# Altium integrated library NSC Interface.IntLib: 481 symbols (part 12 of 16)
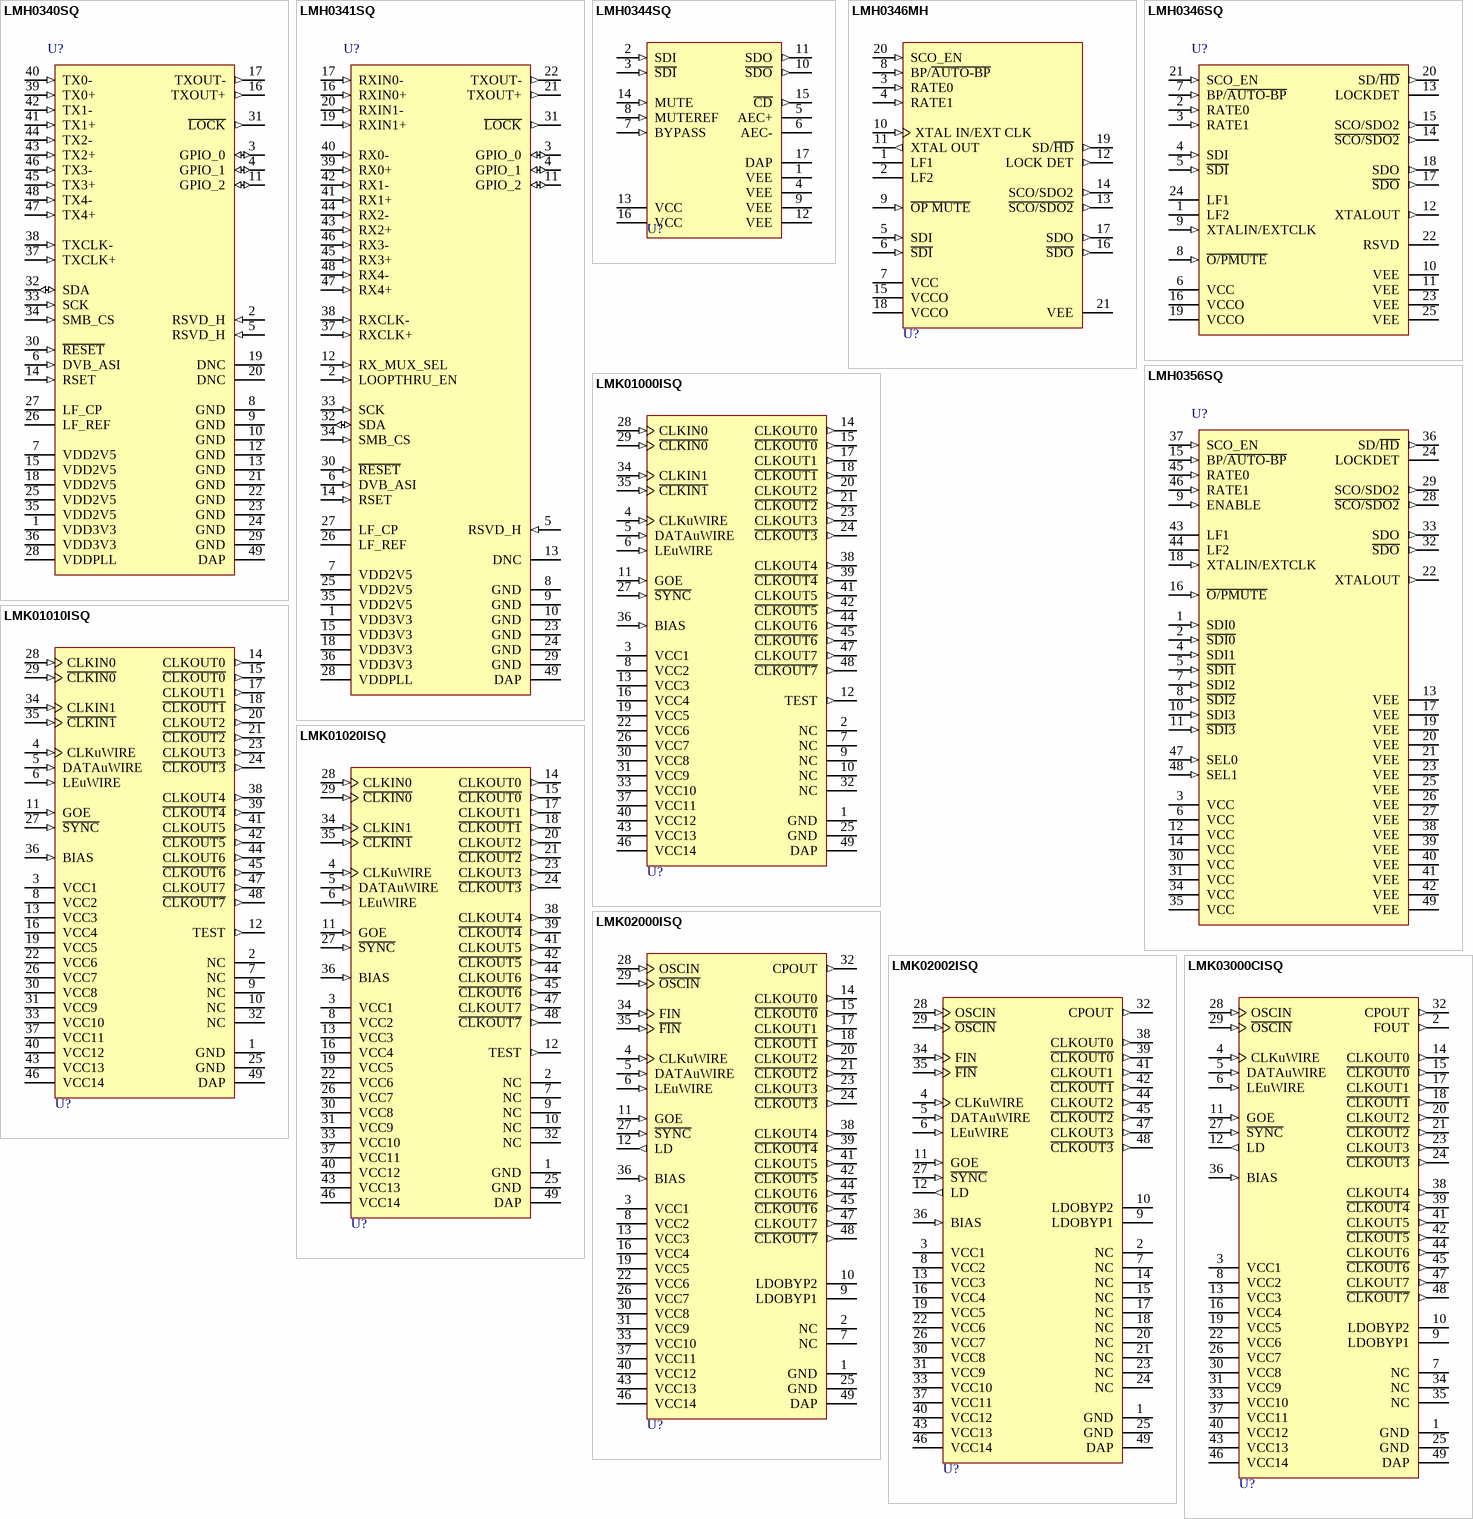
[diagram p51: symbols LMH0340SQ to LMK03000CISQ]

## LMK01000ISQ
designator U?
1.6 GHz High Performance Clock Buffer, Divider, and Distributor; PartNumber: LMK01000ISQ; Manufacturer: National Semiconductor; CompType: Interface IC; PackageTopMarking: NS*UZXYTT*K01000 I; Published: 4-Dec-2008; DatasheetVersion: Mar-2008; PackageVersion: revA, May-2003; PackageReference: SQA48A; Publisher: Altium Limited; PackageDescription: LLP, Plastic, Quad, 7 x 7 x 0.8mm Body, 48 Lead, 0.5mm Pitch, No Pullback; RoHS: Y; PinCount: 48; Code_JEDEC: MO-220-WKKD-2; ComponentLink1Description: LMK01000 Datasheet; ComponentLink1URL: http://www.national.com/ds/LM/LMK01000.pdf; ComponentLink2Description: LMK01000 Web Page; ComponentLink2URL: http://www.national.com/pf/LM/LMK01000.html; ComponentLink3Description: SQA48A Package Page; ComponentLink3URL: http://www.national.com/packaging/folders/sqa48a.html
footprint SQA48A (QFN, 48-Leads, Body 7x7mm, Pitch 0.5mm, NSC Recommended)
pins: 1 GND (power), 2 NC, 3 VCC1 (power), 4 CLKuWIRE (in), 5 DATAuWIRE (in), 6 LEuWIRE (in), 7 NC, 8 VCC2 (power), 9 NC, 10 NC, 11 GOE (in), 12 TEST (out), 13 VCC3 (power), 14 CLKOUT0 (out), 15 ~{CLKOUT0} (out), 16 VCC4 (power), 17 CLKOUT1 (out), 18 ~{CLKOUT1} (out), 19 VCC5 (power), 20 CLKOUT2 (out), 21 ~{CLKOUT2} (out), 22 VCC6 (power), 23 CLKOUT3 (out), 24 ~{CLKOUT3} (out), 25 GND (power), 26 VCC7 (power), 27 ~{SYNC} (in), 28 CLKIN0 (in), 29 ~{CLKIN0} (in), 30 VCC8 (power), 31 VCC9 (power), 32 NC, 33 VCC10 (power), 34 CLKIN1 (in), 35 ~{CLKIN1} (in), 36 BIAS (in), 37 VCC11 (power), 38 CLKOUT4 (out), 39 ~{CLKOUT4} (out), 40 VCC12 (power), 41 CLKOUT5 (out), 42 ~{CLKOUT5} (out), 43 VCC13 (power), 44 CLKOUT6 (out), 45 ~{CLKOUT6} (out), 46 VCC14 (power), 47 CLKOUT7 (out), 48 ~{CLKOUT7} (out), 49 DAP (power)

## LMK01010ISQ
designator U?
1.6 GHz High Performance Clock Buffer, Divider, and Distributor; PartNumber: LMK01010ISQ; Manufacturer: National Semiconductor; CompType: Interface IC; PackageTopMarking: NS*UZXYTT*K01010 I; Published: 4-Dec-2008; DatasheetVersion: Mar-2008; PackageVersion: revA, May-2003; PackageReference: SQA48A; Publisher: Altium Limited; PackageDescription: LLP, Plastic, Quad, 7 x 7 x 0.8mm Body, 48 Lead, 0.5mm Pitch, No Pullback; RoHS: Y; PinCount: 48; Code_JEDEC: MO-220-WKKD-2; ComponentLink1Description: LMK01010 Datasheet; ComponentLink1URL: http://www.national.com/ds/LM/LMK01010.pdf; ComponentLink2Description: LMK01010 Web Page; ComponentLink2URL: http://www.national.com/pf/LM/LMK01010.html; ComponentLink3Description: SQA48A Package Page; ComponentLink3URL: http://www.national.com/packaging/folders/sqa48a.html
footprint SQA48A (QFN, 48-Leads, Body 7x7mm, Pitch 0.5mm, NSC Recommended)
pins: 1 GND (power), 2 NC, 3 VCC1 (power), 4 CLKuWIRE (in), 5 DATAuWIRE (in), 6 LEuWIRE (in), 7 NC, 8 VCC2 (power), 9 NC, 10 NC, 11 GOE (in), 12 TEST (out), 13 VCC3 (power), 14 CLKOUT0 (out), 15 ~{CLKOUT0} (out), 16 VCC4 (power), 17 CLKOUT1 (out), 18 ~{CLKOUT1} (out), 19 VCC5 (power), 20 CLKOUT2 (out), 21 ~{CLKOUT2} (out), 22 VCC6 (power), 23 CLKOUT3 (out), 24 ~{CLKOUT3} (out), 25 GND (power), 26 VCC7 (power), 27 ~{SYNC} (in), 28 CLKIN0 (in), 29 ~{CLKIN0} (in), 30 VCC8 (power), 31 VCC9 (power), 32 NC, 33 VCC10 (power), 34 CLKIN1 (in), 35 ~{CLKIN1} (in), 36 BIAS (in), 37 VCC11 (power), 38 CLKOUT4 (out), 39 ~{CLKOUT4} (out), 40 VCC12 (power), 41 CLKOUT5 (out), 42 ~{CLKOUT5} (out), 43 VCC13 (power), 44 CLKOUT6 (out), 45 ~{CLKOUT6} (out), 46 VCC14 (power), 47 CLKOUT7 (out), 48 ~{CLKOUT7} (out), 49 DAP (power)

## LMK01020ISQ
designator U?
1.6 GHz High Performance Clock Buffer, Divider, and Distributor; PartNumber: LMK01020ISQ; Manufacturer: National Semiconductor; CompType: Interface IC; PackageTopMarking: NS*UZXYTT*K01020 I; Published: 4-Dec-2008; DatasheetVersion: Mar-2008; PackageVersion: revA, May-2003; PackageReference: SQA48A; Publisher: Altium Limited; PackageDescription: LLP, Plastic, Quad, 7 x 7 x 0.8mm Body, 48 Lead, 0.5mm Pitch, No Pullback; RoHS: Y; PinCount: 48; Code_JEDEC: MO-220-WKKD-2; ComponentLink1Description: LMK01020 Datasheet; ComponentLink1URL: http://www.national.com/ds/LM/LMK01020.pdf; ComponentLink2Description: LMK01020 Web Page; ComponentLink2URL: http://www.national.com/pf/LM/LMK01020.html; ComponentLink3Description: SQA48A Package Page; ComponentLink3URL: http://www.national.com/packaging/folders/sqa48a.html
footprint SQA48A (QFN, 48-Leads, Body 7x7mm, Pitch 0.5mm, NSC Recommended)
pins: 1 GND (power), 2 NC, 3 VCC1 (power), 4 CLKuWIRE (in), 5 DATAuWIRE (in), 6 LEuWIRE (in), 7 NC, 8 VCC2 (power), 9 NC, 10 NC, 11 GOE (in), 12 TEST (out), 13 VCC3 (power), 14 CLKOUT0 (out), 15 ~{CLKOUT0} (out), 16 VCC4 (power), 17 CLKOUT1 (out), 18 ~{CLKOUT1} (out), 19 VCC5 (power), 20 CLKOUT2 (out), 21 ~{CLKOUT2} (out), 22 VCC6 (power), 23 CLKOUT3 (out), 24 ~{CLKOUT3} (out), 25 GND (power), 26 VCC7 (power), 27 ~{SYNC} (in), 28 CLKIN0 (in), 29 ~{CLKIN0} (in), 30 VCC8 (power), 31 VCC9 (power), 32 NC, 33 VCC10 (power), 34 CLKIN1 (in), 35 ~{CLKIN1} (in), 36 BIAS (in), 37 VCC11 (power), 38 CLKOUT4 (out), 39 ~{CLKOUT4} (out), 40 VCC12 (power), 41 CLKOUT5 (out), 42 ~{CLKOUT5} (out), 43 VCC13 (power), 44 CLKOUT6 (out), 45 ~{CLKOUT6} (out), 46 VCC14 (power), 47 CLKOUT7 (out), 48 ~{CLKOUT7} (out), 49 DAP (power)

## LMK02000ISQ
designator U?
Precision Clock Distributor with Integrated PLL; PartNumber: LMK02000ISQ; Manufacturer: National Semiconductor; CompType: Interface IC; PackageTopMarking: NS*UZXYTT*K02000 I; Published: 4-Dec-2008; DatasheetVersion: Sep-2007; PackageVersion: revA, May-2003; PackageReference: SQA48A; Publisher: Altium Limited; PackageDescription: LLP, Plastic, Quad, 7 x 7 x 0.8mm Body, 48 Lead, 0.5mm Pitch, No Pullback; RoHS: Y; PinCount: 48; DigiKeyPartNumber: LMK02000ISQTR-ND; Code_JEDEC: MO-220-WKKD-2; ComponentLink1Description: LMK02000 Datasheet; ComponentLink1URL: http://www.national.com/ds/LM/LMK02000.pdf; ComponentLink2Description: LMK02000 Web Page; ComponentLink2URL: http://www.national.com/pf/LM/LMK02000.html; ComponentLink3Description: SQA48A Package Page; ComponentLink3URL: http://www.national.com/packaging/folders/sqa48a.html
footprint SQA48A (QFN, 48-Leads, Body 7x7mm, Pitch 0.5mm, NSC Recommended)
pins: 1 GND (power), 2 NC, 3 VCC1 (power), 4 CLKuWIRE (in), 5 DATAuWIRE (in), 6 LEuWIRE (in), 7 NC, 8 VCC2 (power), 9 LDOBYP1, 10 LDOBYP2, 11 GOE (in), 12 LD (out), 13 VCC3 (power), 14 CLKOUT0 (out), 15 ~{CLKOUT0} (out), 16 VCC4 (power), 17 CLKOUT1 (out), 18 ~{CLKOUT1} (out), 19 VCC5 (power), 20 CLKOUT2 (out), 21 ~{CLKOUT2} (out), 22 VCC6 (power), 23 CLKOUT3 (out), 24 ~{CLKOUT3} (out), 25 GND (power), 26 VCC7 (power), 27 ~{SYNC} (in), 28 OSCIN (in), 29 ~{OSCIN} (in), 30 VCC8 (power), 31 VCC9 (power), 32 CPOUT (out), 33 VCC10 (power), 34 FIN (in), 35 ~{FIN} (in), 36 BIAS (in), 37 VCC11 (power), 38 CLKOUT4 (out), 39 ~{CLKOUT4} (out), 40 VCC12 (power), 41 CLKOUT5 (out), 42 ~{CLKOUT5} (out), 43 VCC13 (power), 44 CLKOUT6 (out), 45 ~{CLKOUT6} (out), 46 VCC14 (power), 47 CLKOUT7 (out), 48 ~{CLKOUT7} (out), 49 DAP (power)

## LMK02002ISQ
designator U?
Precision Clock Distributor with Integrated PLL; PartNumber: LMK02002ISQ; Manufacturer: National Semiconductor; CompType: Interface IC; PackageTopMarking: NS*UZXYTT*K02002 I; Published: 4-Dec-2008; DatasheetVersion: Aug-2007; PackageVersion: revA, May-2003; PackageReference: SQA48A; Publisher: Altium Limited; PackageDescription: LLP, Plastic, Quad, 7 x 7 x 0.8mm Body, 48 Lead, 0.5mm Pitch, No Pullback; RoHS: Y; PinCount: 48; DigiKeyPartNumber: LMK02002ISQTR-ND; Code_JEDEC: MO-220-WKKD-2; ComponentLink1Description: LMK02002 Datasheet; ComponentLink1URL: http://www.national.com/ds/LM/LMK02002.pdf; ComponentLink2Description: LMK02002 Web Page; ComponentLink2URL: http://www.national.com/pf/LM/LMK02002.html; ComponentLink3Description: SQA48A Package Page; ComponentLink3URL: http://www.national.com/packaging/folders/sqa48a.html
footprint SQA48A (QFN, 48-Leads, Body 7x7mm, Pitch 0.5mm, NSC Recommended)
pins: 1 GND (power), 2 NC, 3 VCC1 (power), 4 CLKuWIRE (in), 5 DATAuWIRE (in), 6 LEuWIRE (in), 7 NC, 8 VCC2 (power), 9 LDOBYP1, 10 LDOBYP2, 11 GOE (in), 12 LD (out), 13 VCC3 (power), 14 NC, 15 NC, 16 VCC4 (power), 17 NC, 18 NC, 19 VCC5 (power), 20 NC, 21 NC, 22 VCC6 (power), 23 NC, 24 NC, 25 GND (power), 26 VCC7 (power), 27 ~{SYNC} (in), 28 OSCIN (in), 29 ~{OSCIN} (in), 30 VCC8 (power), 31 VCC9 (power), 32 CPOUT (out), 33 VCC10 (power), 34 FIN (in), 35 ~{FIN} (in), 36 BIAS (in), 37 VCC11 (power), 38 CLKOUT0 (out), 39 ~{CLKOUT0} (out), 40 VCC12 (power), 41 CLKOUT1 (out), 42 ~{CLKOUT1} (out), 43 VCC13 (power), 44 CLKOUT2 (out), 45 ~{CLKOUT2} (out), 46 VCC14 (power), 47 CLKOUT3 (out), 48 ~{CLKOUT3} (out), 49 DAP (power)

## LMK03000CISQ
designator U?
Precision Clock Conditioner with Integrated VCO; PartNumber: LMK03000CISQ; Manufacturer: National Semiconductor; CompType: Interface IC; PackageTopMarking: NS*UZXYTT*K03000CI; Published: 4-Dec-2008; DatasheetVersion: Mar-2008; PackageVersion: revA, May-2003; PackageReference: SQA48A; Publisher: Altium Limited; PackageDescription: LLP, Plastic, Quad, 7 x 7 x 0.8mm Body, 48 Lead, 0.5mm Pitch, No Pullback; RoHS: Y; PinCount: 48; DigiKeyPartNumber: LMK03000CISQTR-ND; Code_JEDEC: MO-220-WKKD-2; ComponentLink1Description: LMK03000C Datasheet; ComponentLink1URL: http://www.national.com/ds/LM/LMK03000C.pdf; ComponentLink2Description: LMK03000C Web Page; ComponentLink2URL: http://www.national.com/pf/LM/LMK03000C.html; ComponentLink3Description: SQA48A Package Page; ComponentLink3URL: http://www.national.com/packaging/folders/sqa48a.html
footprint SQA48A (QFN, 48-Leads, Body 7x7mm, Pitch 0.5mm, NSC Recommended)
pins: 1 GND (power), 2 FOUT (out), 3 VCC1 (power), 4 CLKuWIRE (in), 5 DATAuWIRE (in), 6 LEuWIRE (in), 7 NC, 8 VCC2 (power), 9 LDOBYP1, 10 LDOBYP2, 11 GOE (in), 12 LD (out), 13 VCC3 (power), 14 CLKOUT0 (out), 15 ~{CLKOUT0} (out), 16 VCC4 (power), 17 CLKOUT1 (out), 18 ~{CLKOUT1} (out), 19 VCC5 (power), 20 CLKOUT2 (out), 21 ~{CLKOUT2} (out), 22 VCC6 (power), 23 CLKOUT3 (out), 24 ~{CLKOUT3} (out), 25 GND (power), 26 VCC7 (power), 27 ~{SYNC} (in), 28 OSCIN (in), 29 ~{OSCIN} (in), 30 VCC8 (power), 31 VCC9 (power), 32 CPOUT (out), 33 VCC10 (power), 34 NC, 35 NC, 36 BIAS (in), 37 VCC11 (power), 38 CLKOUT4 (out), 39 ~{CLKOUT4} (out), 40 VCC12 (power), 41 CLKOUT5 (out), 42 ~{CLKOUT5} (out), 43 VCC13 (power), 44 CLKOUT6 (out), 45 ~{CLKOUT6} (out), 46 VCC14 (power), 47 CLKOUT7 (out), 48 ~{CLKOUT7} (out), 49 DAP (power)

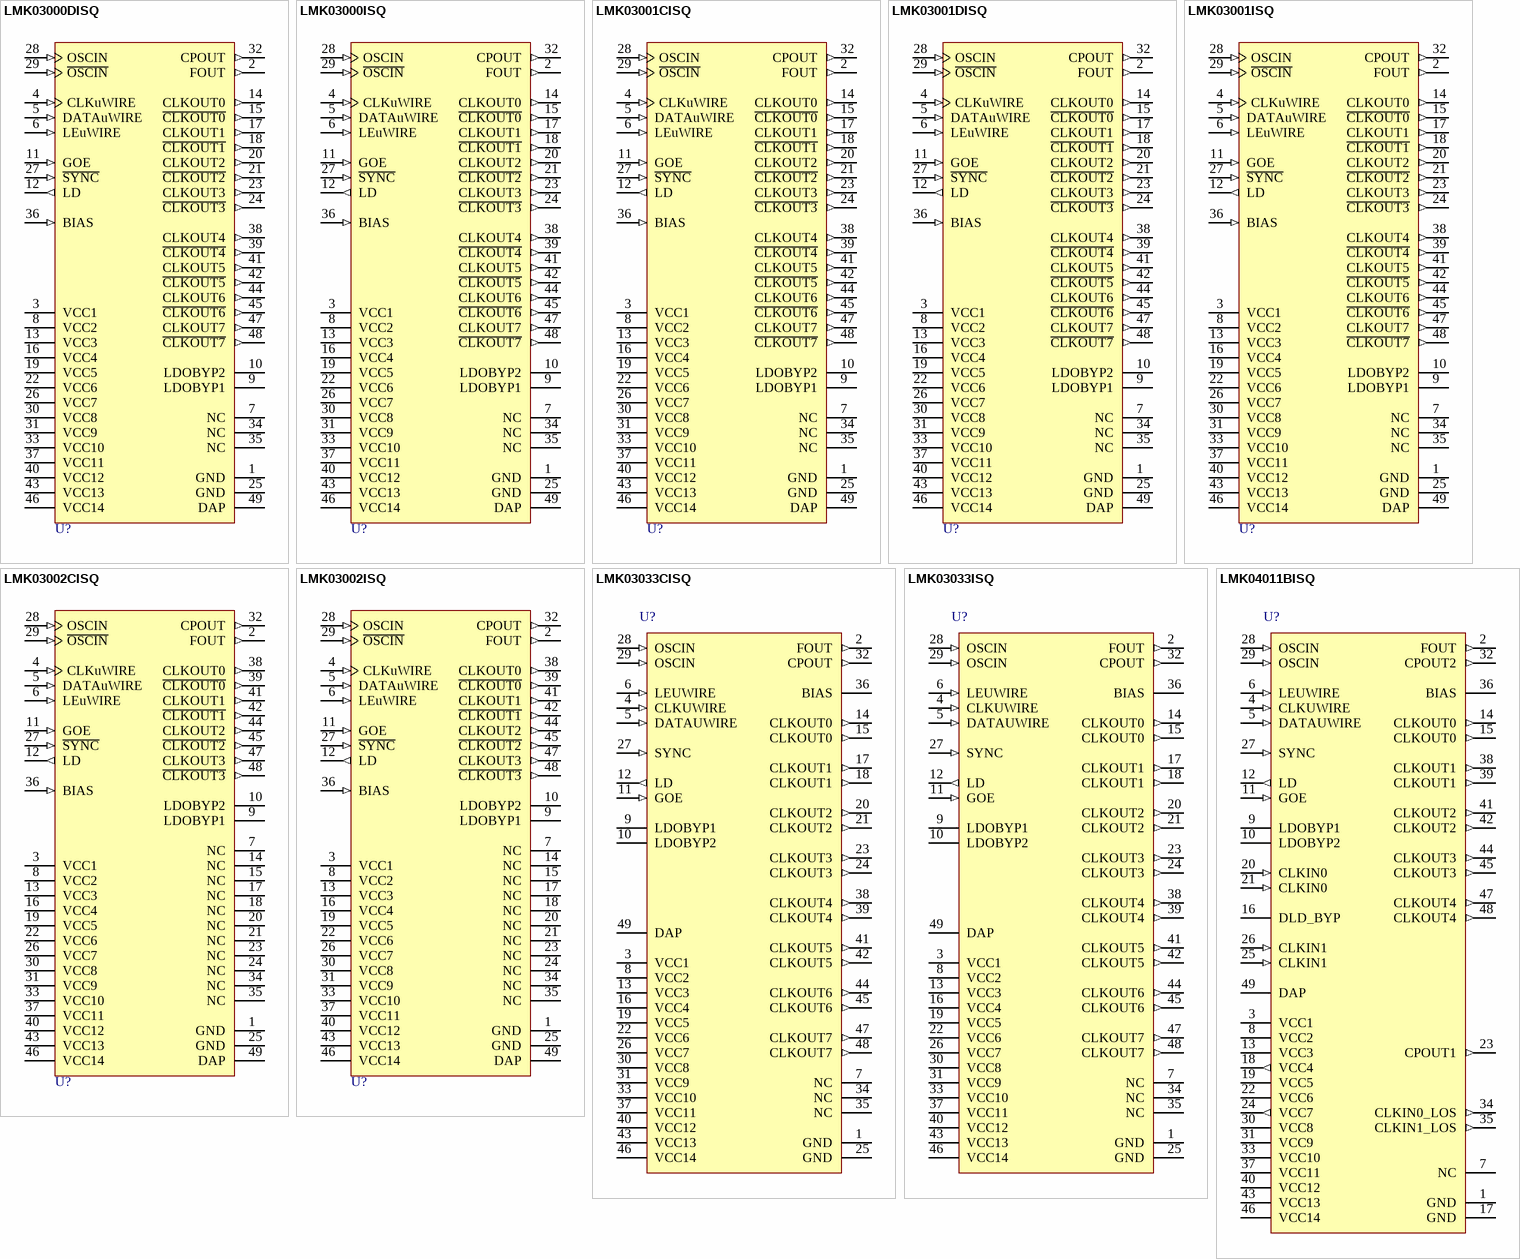
[diagram p31: symbols LMK03000DISQ to LMK04011BISQ]

## LMK03000DISQ
designator U?
Precision Clock Conditioner with Integrated VCO; PartNumber: LMK03000DISQ; Manufacturer: National Semiconductor; CompType: Interface IC; PackageTopMarking: NS*UZXYTT*K03000DI; Published: 4-Dec-2008; DatasheetVersion: Mar-2008; PackageVersion: revA, May-2003; PackageReference: SQA48A; Publisher: Altium Limited; PackageDescription: LLP, Plastic, Quad, 7 x 7 x 0.8mm Body, 48 Lead, 0.5mm Pitch, No Pullback; RoHS: Y; PinCount: 48; DigiKeyPartNumber: LMK03000DISQX-ND; Code_JEDEC: MO-220-WKKD-2; ComponentLink1Description: LMK03000 Datasheet; ComponentLink1URL: http://www.national.com/ds/LM/LMK03000D.pdf; ComponentLink2Description: LMK03000 Web Page; ComponentLink2URL: http://www.national.com/pf/LM/LMK03000.html; ComponentLink3Description: SQA48A Package Page; ComponentLink3URL: http://www.national.com/packaging/folders/sqa48a.html
footprint SQA48A (QFN, 48-Leads, Body 7x7mm, Pitch 0.5mm, NSC Recommended)
pins: 1 GND (power), 2 FOUT (out), 3 VCC1 (power), 4 CLKuWIRE (in), 5 DATAuWIRE (in), 6 LEuWIRE (in), 7 NC, 8 VCC2 (power), 9 LDOBYP1, 10 LDOBYP2, 11 GOE (in), 12 LD (out), 13 VCC3 (power), 14 CLKOUT0 (out), 15 ~{CLKOUT0} (out), 16 VCC4 (power), 17 CLKOUT1 (out), 18 ~{CLKOUT1} (out), 19 VCC5 (power), 20 CLKOUT2 (out), 21 ~{CLKOUT2} (out), 22 VCC6 (power), 23 CLKOUT3 (out), 24 ~{CLKOUT3} (out), 25 GND (power), 26 VCC7 (power), 27 ~{SYNC} (in), 28 OSCIN (in), 29 ~{OSCIN} (in), 30 VCC8 (power), 31 VCC9 (power), 32 CPOUT (out), 33 VCC10 (power), 34 NC, 35 NC, 36 BIAS (in), 37 VCC11 (power), 38 CLKOUT4 (out), 39 ~{CLKOUT4} (out), 40 VCC12 (power), 41 CLKOUT5 (out), 42 ~{CLKOUT5} (out), 43 VCC13 (power), 44 CLKOUT6 (out), 45 ~{CLKOUT6} (out), 46 VCC14 (power), 47 CLKOUT7 (out), 48 ~{CLKOUT7} (out), 49 DAP (power)

## LMK03000ISQ
designator U?
Precision Clock Conditioner with Integrated VCO; PartNumber: LMK03000ISQ; Manufacturer: National Semiconductor; CompType: Interface IC; PackageTopMarking: NS*UZXYTT*K03000 I; Published: 4-Dec-2008; DatasheetVersion: Mar-2008; PackageVersion: revA, May-2003; PackageReference: SQA48A; Publisher: Altium Limited; PackageDescription: LLP, Plastic, Quad, 7 x 7 x 0.8mm Body, 48 Lead, 0.5mm Pitch, No Pullback; RoHS: Y; PinCount: 48; DigiKeyPartNumber: LMK03000ISQTR-ND; Code_JEDEC: MO-220-WKKD-2; ComponentLink1Description: LMK03000 Datasheet; ComponentLink1URL: http://www.national.com/ds/LM/LMK03000.pdf; ComponentLink2Description: LMK03000 Web Page; ComponentLink2URL: http://www.national.com/pf/LM/LMK03000.html; ComponentLink3Description: SQA48A Package Page; ComponentLink3URL: http://www.national.com/packaging/folders/sqa48a.html
footprint SQA48A (QFN, 48-Leads, Body 7x7mm, Pitch 0.5mm, NSC Recommended)
pins: 1 GND (power), 2 FOUT (out), 3 VCC1 (power), 4 CLKuWIRE (in), 5 DATAuWIRE (in), 6 LEuWIRE (in), 7 NC, 8 VCC2 (power), 9 LDOBYP1, 10 LDOBYP2, 11 GOE (in), 12 LD (out), 13 VCC3 (power), 14 CLKOUT0 (out), 15 ~{CLKOUT0} (out), 16 VCC4 (power), 17 CLKOUT1 (out), 18 ~{CLKOUT1} (out), 19 VCC5 (power), 20 CLKOUT2 (out), 21 ~{CLKOUT2} (out), 22 VCC6 (power), 23 CLKOUT3 (out), 24 ~{CLKOUT3} (out), 25 GND (power), 26 VCC7 (power), 27 ~{SYNC} (in), 28 OSCIN (in), 29 ~{OSCIN} (in), 30 VCC8 (power), 31 VCC9 (power), 32 CPOUT (out), 33 VCC10 (power), 34 NC, 35 NC, 36 BIAS (in), 37 VCC11 (power), 38 CLKOUT4 (out), 39 ~{CLKOUT4} (out), 40 VCC12 (power), 41 CLKOUT5 (out), 42 ~{CLKOUT5} (out), 43 VCC13 (power), 44 CLKOUT6 (out), 45 ~{CLKOUT6} (out), 46 VCC14 (power), 47 CLKOUT7 (out), 48 ~{CLKOUT7} (out), 49 DAP (power)

## LMK03001CISQ
designator U?
Precision Clock Conditioner with Integrated VCO; PartNumber: LMK03001CISQ; Manufacturer: National Semiconductor; CompType: Interface IC; PackageTopMarking: NS*UZXYTT*K03001CI; Published: 4-Dec-2008; DatasheetVersion: Mar-2008; PackageVersion: revA, May-2003; PackageReference: SQA48A; Publisher: Altium Limited; PackageDescription: LLP, Plastic, Quad, 7 x 7 x 0.8mm Body, 48 Lead, 0.5mm Pitch, No Pullback; RoHS: Y; PinCount: 48; DigiKeyPartNumber: LMK03001CISQTR-ND; Code_JEDEC: MO-220-WKKD-2; ComponentLink1Description: LMK03001C Datasheet; ComponentLink1URL: http://www.national.com/ds/LM/LMK03001C.pdf; ComponentLink2Description: LMK03001C Web Page; ComponentLink2URL: http://www.national.com/pf/LM/LMK03001C.html; ComponentLink3Description: SQA48A Package Page; ComponentLink3URL: http://www.national.com/packaging/folders/sqa48a.html
footprint SQA48A (QFN, 48-Leads, Body 7x7mm, Pitch 0.5mm, NSC Recommended)
pins: 1 GND (power), 2 FOUT (out), 3 VCC1 (power), 4 CLKuWIRE (in), 5 DATAuWIRE (in), 6 LEuWIRE (in), 7 NC, 8 VCC2 (power), 9 LDOBYP1, 10 LDOBYP2, 11 GOE (in), 12 LD (out), 13 VCC3 (power), 14 CLKOUT0 (out), 15 ~{CLKOUT0} (out), 16 VCC4 (power), 17 CLKOUT1 (out), 18 ~{CLKOUT1} (out), 19 VCC5 (power), 20 CLKOUT2 (out), 21 ~{CLKOUT2} (out), 22 VCC6 (power), 23 CLKOUT3 (out), 24 ~{CLKOUT3} (out), 25 GND (power), 26 VCC7 (power), 27 ~{SYNC} (in), 28 OSCIN (in), 29 ~{OSCIN} (in), 30 VCC8 (power), 31 VCC9 (power), 32 CPOUT (out), 33 VCC10 (power), 34 NC, 35 NC, 36 BIAS (in), 37 VCC11 (power), 38 CLKOUT4 (out), 39 ~{CLKOUT4} (out), 40 VCC12 (power), 41 CLKOUT5 (out), 42 ~{CLKOUT5} (out), 43 VCC13 (power), 44 CLKOUT6 (out), 45 ~{CLKOUT6} (out), 46 VCC14 (power), 47 CLKOUT7 (out), 48 ~{CLKOUT7} (out), 49 DAP (power)

## LMK03001DISQ
designator U?
Precision Clock Conditioner with Integrated VCO; PartNumber: LMK03001DISQ; Manufacturer: National Semiconductor; CompType: Interface IC; PackageTopMarking: NS*UZXYTT*K03001DI; Published: 4-Dec-2008; DatasheetVersion: Mar-2008; PackageVersion: revA, May-2003; PackageReference: SQA48A; Publisher: Altium Limited; PackageDescription: LLP, Plastic, Quad, 7 x 7 x 0.8mm Body, 48 Lead, 0.5mm Pitch, No Pullback; RoHS: Y; PinCount: 48; DigiKeyPartNumber: LMK03001DISQX-ND; Code_JEDEC: MO-220-WKKD-2; ComponentLink1Description: LMK03001 Datasheet; ComponentLink1URL: http://www.national.com/ds/LM/LMK03001D.pdf; ComponentLink2Description: LMK03001 Web Page; ComponentLink2URL: http://www.national.com/pf/LM/LMK03001.html; ComponentLink3Description: SQA48A Package Page; ComponentLink3URL: http://www.national.com/packaging/folders/sqa48a.html
footprint SQA48A (QFN, 48-Leads, Body 7x7mm, Pitch 0.5mm, NSC Recommended)
pins: 1 GND (power), 2 FOUT (out), 3 VCC1 (power), 4 CLKuWIRE (in), 5 DATAuWIRE (in), 6 LEuWIRE (in), 7 NC, 8 VCC2 (power), 9 LDOBYP1, 10 LDOBYP2, 11 GOE (in), 12 LD (out), 13 VCC3 (power), 14 CLKOUT0 (out), 15 ~{CLKOUT0} (out), 16 VCC4 (power), 17 CLKOUT1 (out), 18 ~{CLKOUT1} (out), 19 VCC5 (power), 20 CLKOUT2 (out), 21 ~{CLKOUT2} (out), 22 VCC6 (power), 23 CLKOUT3 (out), 24 ~{CLKOUT3} (out), 25 GND (power), 26 VCC7 (power), 27 ~{SYNC} (in), 28 OSCIN (in), 29 ~{OSCIN} (in), 30 VCC8 (power), 31 VCC9 (power), 32 CPOUT (out), 33 VCC10 (power), 34 NC, 35 NC, 36 BIAS (in), 37 VCC11 (power), 38 CLKOUT4 (out), 39 ~{CLKOUT4} (out), 40 VCC12 (power), 41 CLKOUT5 (out), 42 ~{CLKOUT5} (out), 43 VCC13 (power), 44 CLKOUT6 (out), 45 ~{CLKOUT6} (out), 46 VCC14 (power), 47 CLKOUT7 (out), 48 ~{CLKOUT7} (out), 49 DAP (power)

## LMK03001ISQ
designator U?
Precision Clock Conditioner with Integrated VCO; PartNumber: LMK03001ISQ; Manufacturer: National Semiconductor; CompType: Interface IC; PackageTopMarking: NS*UZXYTT*K03001 I; Published: 4-Dec-2008; DatasheetVersion: Mar-2008; PackageVersion: revA, May-2003; PackageReference: SQA48A; Publisher: Altium Limited; PackageDescription: LLP, Plastic, Quad, 7 x 7 x 0.8mm Body, 48 Lead, 0.5mm Pitch, No Pullback; RoHS: Y; PinCount: 48; DigiKeyPartNumber: LMK03001ISQTR-ND; Code_JEDEC: MO-220-WKKD-2; ComponentLink1Description: LMK03001 Datasheet; ComponentLink1URL: http://www.national.com/ds/LM/LMK03001.pdf; ComponentLink2Description: LMK03001 Web Page; ComponentLink2URL: http://www.national.com/pf/LM/LMK03001.html; ComponentLink3Description: SQA48A Package Page; ComponentLink3URL: http://www.national.com/packaging/folders/sqa48a.html
footprint SQA48A (QFN, 48-Leads, Body 7x7mm, Pitch 0.5mm, NSC Recommended)
pins: 1 GND (power), 2 FOUT (out), 3 VCC1 (power), 4 CLKuWIRE (in), 5 DATAuWIRE (in), 6 LEuWIRE (in), 7 NC, 8 VCC2 (power), 9 LDOBYP1, 10 LDOBYP2, 11 GOE (in), 12 LD (out), 13 VCC3 (power), 14 CLKOUT0 (out), 15 ~{CLKOUT0} (out), 16 VCC4 (power), 17 CLKOUT1 (out), 18 ~{CLKOUT1} (out), 19 VCC5 (power), 20 CLKOUT2 (out), 21 ~{CLKOUT2} (out), 22 VCC6 (power), 23 CLKOUT3 (out), 24 ~{CLKOUT3} (out), 25 GND (power), 26 VCC7 (power), 27 ~{SYNC} (in), 28 OSCIN (in), 29 ~{OSCIN} (in), 30 VCC8 (power), 31 VCC9 (power), 32 CPOUT (out), 33 VCC10 (power), 34 NC, 35 NC, 36 BIAS (in), 37 VCC11 (power), 38 CLKOUT4 (out), 39 ~{CLKOUT4} (out), 40 VCC12 (power), 41 CLKOUT5 (out), 42 ~{CLKOUT5} (out), 43 VCC13 (power), 44 CLKOUT6 (out), 45 ~{CLKOUT6} (out), 46 VCC14 (power), 47 CLKOUT7 (out), 48 ~{CLKOUT7} (out), 49 DAP (power)

## LMK03002CISQ
designator U?
Precision Clock Conditioner with Integrated VCO; PartNumber: LMK03002CISQ; Manufacturer: National Semiconductor; CompType: Interface IC; PackageTopMarking: NS*UZXYTT*K03002CI; Published: 4-Dec-2008; DatasheetVersion: Aug-2007; PackageVersion: revA, May-2003; PackageReference: SQA48A; Publisher: Altium Limited; PackageDescription: LLP, Plastic, Quad, 7 x 7 x 0.8mm Body, 48 Lead, 0.5mm Pitch, No Pullback; RoHS: Y; PinCount: 48; DigiKeyPartNumber: LMK03002CISQTR-ND; Code_JEDEC: MO-220-WKKD-2; ComponentLink1Description: LMK03002C Datasheet; ComponentLink1URL: http://www.national.com/ds/LM/LMK03002C.pdf; ComponentLink2Description: LMK03002C Web Page; ComponentLink2URL: http://www.national.com/pf/LM/LMK03002C.html; ComponentLink3Description: SQA48A Package Page; ComponentLink3URL: http://www.national.com/packaging/folders/sqa48a.html
footprint SQA48A (QFN, 48-Leads, Body 7x7mm, Pitch 0.5mm, NSC Recommended)
pins: 1 GND (power), 2 FOUT (out), 3 VCC1 (power), 4 CLKuWIRE (in), 5 DATAuWIRE (in), 6 LEuWIRE (in), 7 NC, 8 VCC2 (power), 9 LDOBYP1, 10 LDOBYP2, 11 GOE (in), 12 LD (out), 13 VCC3 (power), 14 NC, 15 NC, 16 VCC4 (power), 17 NC, 18 NC, 19 VCC5 (power), 20 NC, 21 NC, 22 VCC6 (power), 23 NC, 24 NC, 25 GND (power), 26 VCC7 (power), 27 ~{SYNC} (in), 28 OSCIN (in), 29 ~{OSCIN} (in), 30 VCC8 (power), 31 VCC9 (power), 32 CPOUT (out), 33 VCC10 (power), 34 NC, 35 NC, 36 BIAS (in), 37 VCC11 (power), 38 CLKOUT0 (out), 39 ~{CLKOUT0} (out), 40 VCC12 (power), 41 CLKOUT1 (out), 42 ~{CLKOUT1} (out), 43 VCC13 (power), 44 CLKOUT2 (out), 45 ~{CLKOUT2} (out), 46 VCC14 (power), 47 CLKOUT3 (out), 48 ~{CLKOUT3} (out), 49 DAP (power)

## LMK03002ISQ
designator U?
Precision Clock Conditioner with Integrated VCO; PartNumber: LMK03002ISQ; Manufacturer: National Semiconductor; CompType: Interface IC; PackageTopMarking: NS*UZXYTT*K03002 I; Published: 4-Dec-2008; DatasheetVersion: Aug-2007; PackageVersion: revA, May-2003; PackageReference: SQA48A; Publisher: Altium Limited; PackageDescription: LLP, Plastic, Quad, 7 x 7 x 0.8mm Body, 48 Lead, 0.5mm Pitch, No Pullback; RoHS: Y; PinCount: 48; DigiKeyPartNumber: LMK03002ISQTR-ND; Code_JEDEC: MO-220-WKKD-2; ComponentLink1Description: LMK03002 Datasheet; ComponentLink1URL: http://www.national.com/ds/LM/LMK03002.pdf; ComponentLink2Description: LMK03002 Web Page; ComponentLink2URL: http://www.national.com/pf/LM/LMK03002.html; ComponentLink3Description: SQA48A Package Page; ComponentLink3URL: http://www.national.com/packaging/folders/sqa48a.html
footprint SQA48A (QFN, 48-Leads, Body 7x7mm, Pitch 0.5mm, NSC Recommended)
pins: 1 GND (power), 2 FOUT (out), 3 VCC1 (power), 4 CLKuWIRE (in), 5 DATAuWIRE (in), 6 LEuWIRE (in), 7 NC, 8 VCC2 (power), 9 LDOBYP1, 10 LDOBYP2, 11 GOE (in), 12 LD (out), 13 VCC3 (power), 14 NC, 15 NC, 16 VCC4 (power), 17 NC, 18 NC, 19 VCC5 (power), 20 NC, 21 NC, 22 VCC6 (power), 23 NC, 24 NC, 25 GND (power), 26 VCC7 (power), 27 ~{SYNC} (in), 28 OSCIN (in), 29 ~{OSCIN} (in), 30 VCC8 (power), 31 VCC9 (power), 32 CPOUT (out), 33 VCC10 (power), 34 NC, 35 NC, 36 BIAS (in), 37 VCC11 (power), 38 CLKOUT0 (out), 39 ~{CLKOUT0} (out), 40 VCC12 (power), 41 CLKOUT1 (out), 42 ~{CLKOUT1} (out), 43 VCC13 (power), 44 CLKOUT2 (out), 45 ~{CLKOUT2} (out), 46 VCC14 (power), 47 CLKOUT3 (out), 48 ~{CLKOUT3} (out), 49 DAP (power)

## LMK03033CISQ
designator U?
Precision Clock Conditioner with Integrated VCO; PartNumber: LMK03033CISQ; Manufacturer: National Semiconductor; CompType: Interface IC; PackageTopMarking: NS*UZXYTT*K03033CI; Published: 4-Dec-2008; DatasheetVersion: Sep-2008; PackageVersion: revA, May-2003; PackageReference: SQA48A; Publisher: Altium Limited; RoHS: Y; PinCount: 48; Code_JEDEC: MO-220-WKKD-2; ComponentLink1Description: LMK03033C Datasheet; ComponentLink1URL: http://www.national.com/ds/LM/LMK03033C.pdf; ComponentLink2Description: LMK03033C Web Page; ComponentLink2URL: http://www.national.com/pf/LM/LMK03033C.html; ComponentLink3Description: SQA48A Package Page; ComponentLink3URL: http://www.national.com/packaging/folders/sqa48a.html
footprint SQA48A (QFN, 48-Leads, Body 7x7mm, Pitch 0.5mm, NSC Recommended)
pins: 1 GND (power), 2 FOUT (out), 3 VCC1 (power), 4 CLKUWIRE (in), 5 DATAUWIRE (in), 6 LEUWIRE (in), 7 NC, 8 VCC2 (power), 9 LDOBYP1, 10 LDOBYP2, 11 GOE (in), 12 LD (out), 13 VCC3 (power), 14 CLKOUT0 (out), 15 CLKOUT0 (out), 16 VCC4 (power), 17 CLKOUT1 (out), 18 CLKOUT1 (out), 19 VCC5 (power), 20 CLKOUT2 (out), 21 CLKOUT2 (out), 22 VCC6 (power), 23 CLKOUT3 (out), 24 CLKOUT3 (out), 25 GND (power), 26 VCC7 (power), 27 SYNC (in), 28 OSCIN (in), 29 OSCIN (in), 30 VCC8 (power), 31 VCC9 (power), 32 CPOUT (out), 33 VCC10 (power), 34 NC, 35 NC, 36 BIAS, 37 VCC11 (power), 38 CLKOUT4 (out), 39 CLKOUT4 (out), 40 VCC12 (power), 41 CLKOUT5 (out), 42 CLKOUT5 (out), 43 VCC13 (power), 44 CLKOUT6 (out), 45 CLKOUT6 (out), 46 VCC14 (power), 47 CLKOUT7 (out), 48 CLKOUT7 (out), 49 DAP

## LMK03033ISQ
designator U?
Precision Clock Conditioner with Integrated VCO; PartNumber: LMK03033ISQ; Manufacturer: National Semiconductor; CompType: Interface IC; PackageTopMarking: NS*UZXYTT*K03033 I; Published: 4-Dec-2008; DatasheetVersion: Sep-2008; PackageVersion: revA, May-2003; PackageReference: SQA48A; Publisher: Altium Limited; RoHS: Y; PinCount: 48; Code_JEDEC: MO-220-WKKD-2; ComponentLink1Description: LMK03033 Datasheet; ComponentLink1URL: http://www.national.com/ds/LM/LMK03033.pdf; ComponentLink2Description: LMK03033 Web Page; ComponentLink2URL: http://www.national.com/pf/LM/LMK03033.html; ComponentLink3Description: SQA48A Package Page; ComponentLink3URL: http://www.national.com/packaging/folders/sqa48a.html
footprint SQA48A (QFN, 48-Leads, Body 7x7mm, Pitch 0.5mm, NSC Recommended)
pins: 1 GND (power), 2 FOUT (out), 3 VCC1 (power), 4 CLKUWIRE (in), 5 DATAUWIRE (in), 6 LEUWIRE (in), 7 NC, 8 VCC2 (power), 9 LDOBYP1, 10 LDOBYP2, 11 GOE (in), 12 LD (out), 13 VCC3 (power), 14 CLKOUT0 (out), 15 CLKOUT0 (out), 16 VCC4 (power), 17 CLKOUT1 (out), 18 CLKOUT1 (out), 19 VCC5 (power), 20 CLKOUT2 (out), 21 CLKOUT2 (out), 22 VCC6 (power), 23 CLKOUT3 (out), 24 CLKOUT3 (out), 25 GND (power), 26 VCC7 (power), 27 SYNC (in), 28 OSCIN (in), 29 OSCIN (in), 30 VCC8 (power), 31 VCC9 (power), 32 CPOUT (out), 33 VCC10 (power), 34 NC, 35 NC, 36 BIAS, 37 VCC11 (power), 38 CLKOUT4 (out), 39 CLKOUT4 (out), 40 VCC12 (power), 41 CLKOUT5 (out), 42 CLKOUT5 (out), 43 VCC13 (power), 44 CLKOUT6 (out), 45 CLKOUT6 (out), 46 VCC14 (power), 47 CLKOUT7 (out), 48 CLKOUT7 (out), 49 DAP

## LMK04011BISQ
designator U?
Precision Clock Conditioners Low-Noise Clock Jitter Cleaner with Cascaded PLLs; PartNumber: LMK04011BISQ; Manufacturer: National Semiconductor; CompType: Interface IC; PackageTopMarking: NS*UZXYTT*K04011BI; Published: 4-Dec-2008; DatasheetVersion: Oct-2008; PackageVersion: revA, May-2003; PackageReference: SQA48A; Publisher: Altium Limited; RoHS: Y; PinCount: 48; DigiKeyPartNumber: LMK04011BISQ-ND; Code_JEDEC: MO-220-WKKD-2; ComponentLink1Description: LMK04011B Datasheet; ComponentLink1URL: http://www.national.com/ds/LM/LMK04011B.pdf; ComponentLink2Description: LMK04011B Web Page; ComponentLink2URL: http://www.national.com/pf/LM/LMK04011B.html; ComponentLink3Description: SQA48A Package Page; ComponentLink3URL: http://www.national.com/packaging/folders/sqa48a.html
footprint SQA48A (QFN, 48-Leads, Body 7x7mm, Pitch 0.5mm, NSC Recommended)
pins: 1 GND (power), 2 FOUT (out), 3 VCC1 (power), 4 CLKUWIRE (in), 5 DATAUWIRE (in), 6 LEUWIRE (in), 7 NC, 8 VCC2 (power), 9 LDOBYP1, 10 LDOBYP2, 11 GOE (in), 12 LD (out), 13 VCC3 (power), 14 CLKOUT0 (out), 15 CLKOUT0 (out), 16 DLD_BYP (power), 17 GND (power), 18 VCC4 (out), 19 VCC5 (power), 20 CLKIN0 (in), 21 CLKIN0 (in), 22 VCC6 (power), 23 CPOUT1 (out), 24 VCC7 (out), 25 CLKIN1 (in), 26 CLKIN1 (in), 27 SYNC (in), 28 OSCIN (in), 29 OSCIN (in), 30 VCC8 (power), 31 VCC9 (power), 32 CPOUT2 (out), 33 VCC10 (power), 34 CLKIN0_LOS (out), 35 CLKIN1_LOS (out), 36 BIAS, 37 VCC11 (power), 38 CLKOUT1 (out), 39 CLKOUT1 (out), 40 VCC12 (power), 41 CLKOUT2 (out), 42 CLKOUT2 (out), 43 VCC13 (power), 44 CLKOUT3 (out), 45 CLKOUT3 (out), 46 VCC14 (power), 47 CLKOUT4 (out), 48 CLKOUT4 (out), 49 DAP

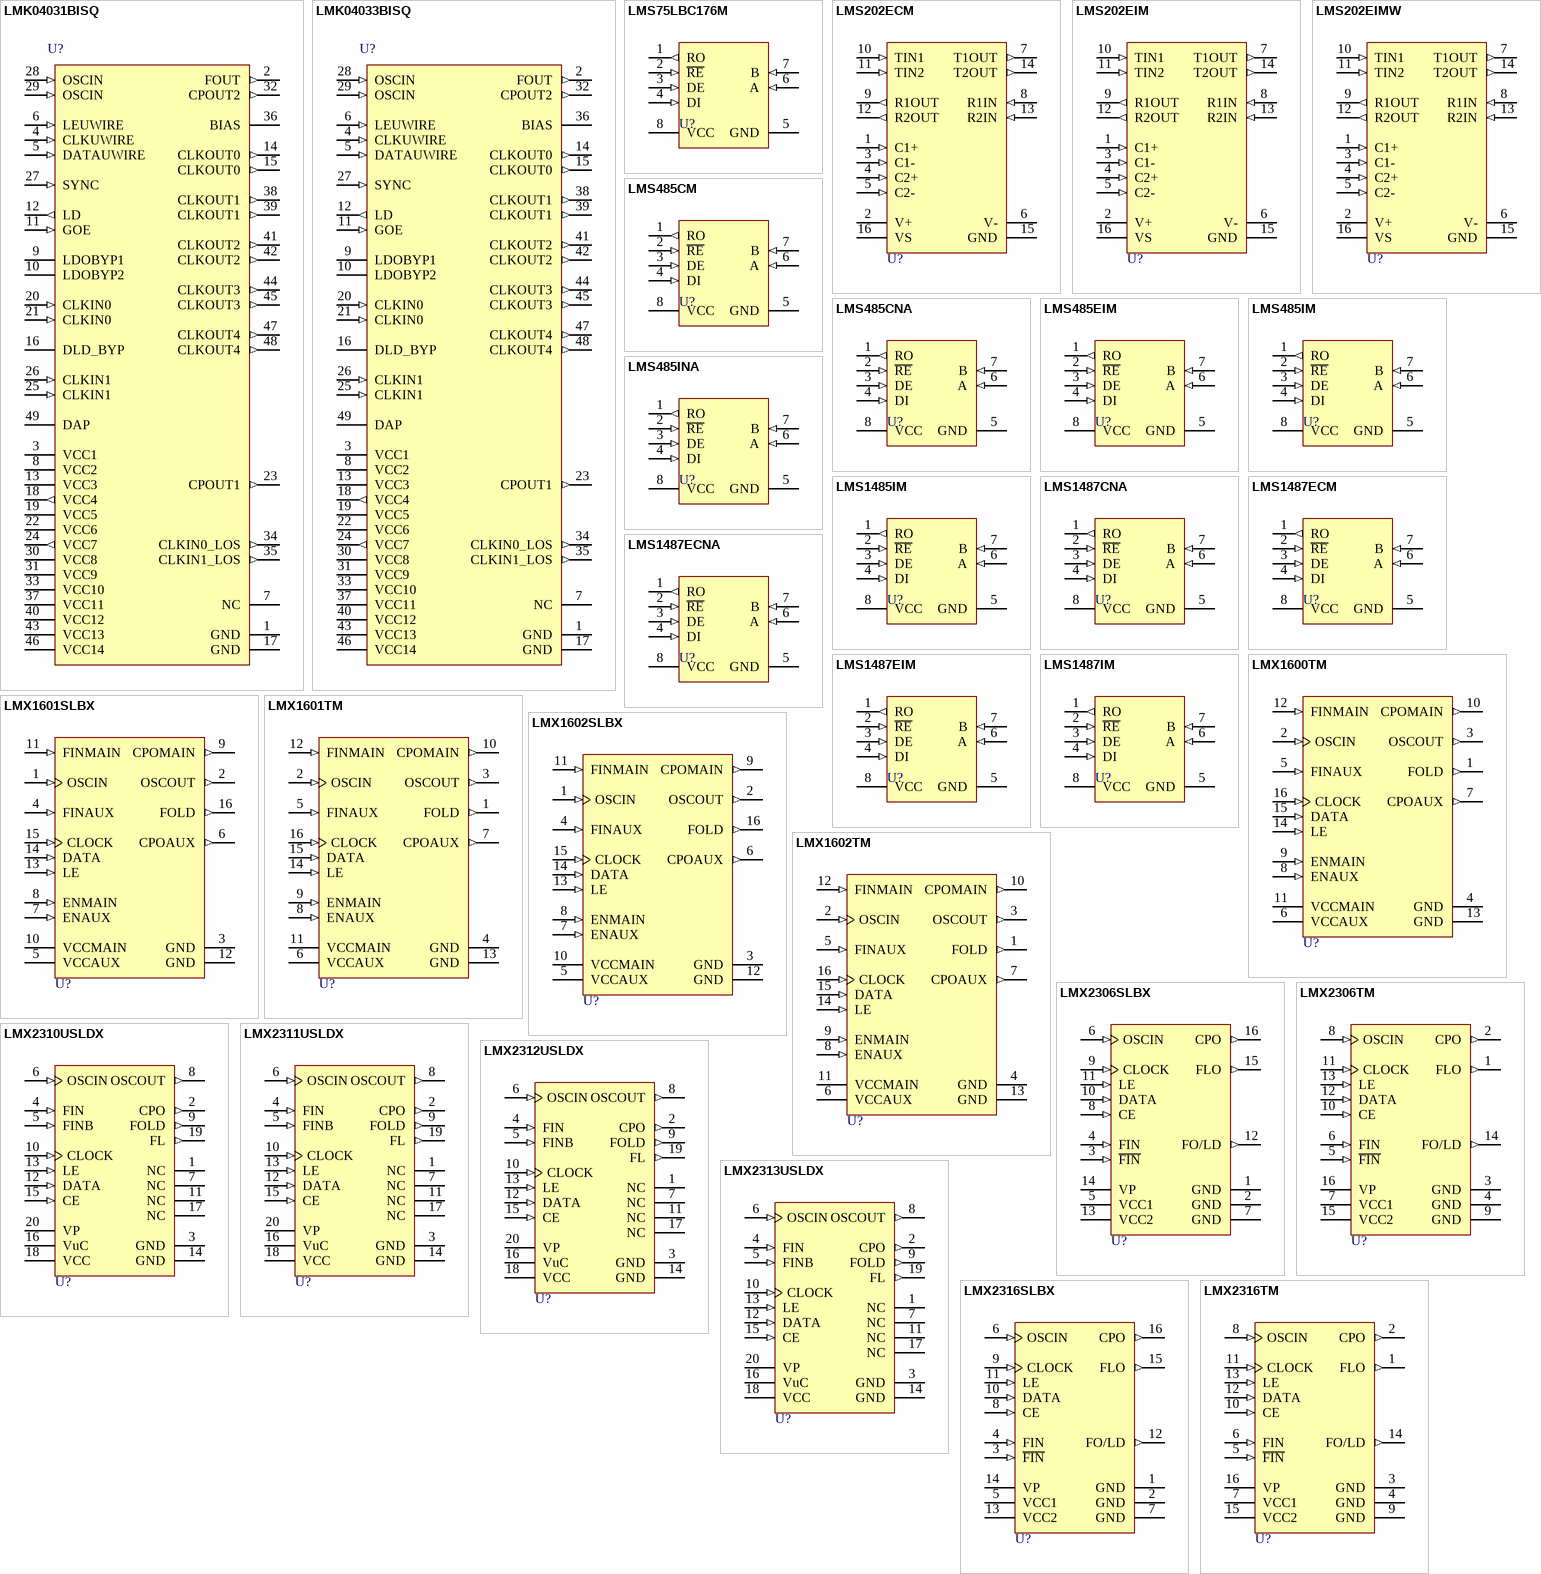
[diagram p32: symbols LMK04031BISQ to LMX2316TM]

## LMK04031BISQ
designator U?
Precision Clock Conditioners Low-Noise Clock Jitter Cleaner with Cascaded PLLs; PartNumber: LMK04031BISQ; Manufacturer: National Semiconductor; CompType: Interface IC; PackageTopMarking: NS*UZXYTT*K04031BI; Published: 4-Dec-2008; DatasheetVersion: Oct-2008; PackageVersion: revA, May-2003; PackageReference: SQA48A; Publisher: Altium Limited; RoHS: Y; PinCount: 48; DigiKeyPartNumber: LMK04031BISQ-ND; Code_JEDEC: MO-220-WKKD-2; ComponentLink1Description: LMK04031B Datasheet; ComponentLink1URL: http://www.national.com/ds/LM/LMK04031B.pdf; ComponentLink2Description: LMK04031B Web Page; ComponentLink2URL: http://www.national.com/pf/LM/LMK04031B.html; ComponentLink3Description: SQA48A Package Page; ComponentLink3URL: http://www.national.com/packaging/folders/sqa48a.html
footprint SQA48A (QFN, 48-Leads, Body 7x7mm, Pitch 0.5mm, NSC Recommended)
pins: 1 GND (power), 2 FOUT (out), 3 VCC1 (power), 4 CLKUWIRE (in), 5 DATAUWIRE (in), 6 LEUWIRE (in), 7 NC, 8 VCC2 (power), 9 LDOBYP1, 10 LDOBYP2, 11 GOE (in), 12 LD (out), 13 VCC3 (power), 14 CLKOUT0 (out), 15 CLKOUT0 (out), 16 DLD_BYP (power), 17 GND (power), 18 VCC4 (out), 19 VCC5 (power), 20 CLKIN0 (in), 21 CLKIN0 (in), 22 VCC6 (power), 23 CPOUT1 (out), 24 VCC7 (out), 25 CLKIN1 (in), 26 CLKIN1 (in), 27 SYNC (in), 28 OSCIN (in), 29 OSCIN (in), 30 VCC8 (power), 31 VCC9 (power), 32 CPOUT2 (out), 33 VCC10 (power), 34 CLKIN0_LOS (out), 35 CLKIN1_LOS (out), 36 BIAS, 37 VCC11 (power), 38 CLKOUT1 (out), 39 CLKOUT1 (out), 40 VCC12 (power), 41 CLKOUT2 (out), 42 CLKOUT2 (out), 43 VCC13 (power), 44 CLKOUT3 (out), 45 CLKOUT3 (out), 46 VCC14 (power), 47 CLKOUT4 (out), 48 CLKOUT4 (out), 49 DAP

## LMK04033BISQ
designator U?
Precision Clock Conditioners Low-Noise Clock Jitter Cleaner with Cascaded PLLs; PartNumber: LMK04033BISQ; Manufacturer: National Semiconductor; CompType: Interface IC; PackageTopMarking: NS*UZXYTT*K04033BI; Published: 4-Dec-2008; DatasheetVersion: Oct-2008; PackageVersion: revA, May-2003; PackageReference: SQA48A; Publisher: Altium Limited; RoHS: Y; PinCount: 48; Code_JEDEC: MO-220-WKKD-2; ComponentLink1Description: LMK04033B Datasheet; ComponentLink1URL: http://www.national.com/ds/LM/LMK04033B.pdf; ComponentLink2Description: LMK04033B Web Page; ComponentLink2URL: http://www.national.com/pf/LM/LMK04033B.html; ComponentLink3Description: SQA48A Package Page; ComponentLink3URL: http://www.national.com/packaging/folders/sqa48a.html
footprint SQA48A (QFN, 48-Leads, Body 7x7mm, Pitch 0.5mm, NSC Recommended)
pins: 1 GND (power), 2 FOUT (out), 3 VCC1 (power), 4 CLKUWIRE (in), 5 DATAUWIRE (in), 6 LEUWIRE (in), 7 NC, 8 VCC2 (power), 9 LDOBYP1, 10 LDOBYP2, 11 GOE (in), 12 LD (out), 13 VCC3 (power), 14 CLKOUT0 (out), 15 CLKOUT0 (out), 16 DLD_BYP (power), 17 GND (power), 18 VCC4 (out), 19 VCC5 (power), 20 CLKIN0 (in), 21 CLKIN0 (in), 22 VCC6 (power), 23 CPOUT1 (out), 24 VCC7 (out), 25 CLKIN1 (in), 26 CLKIN1 (in), 27 SYNC (in), 28 OSCIN (in), 29 OSCIN (in), 30 VCC8 (power), 31 VCC9 (power), 32 CPOUT2 (out), 33 VCC10 (power), 34 CLKIN0_LOS (out), 35 CLKIN1_LOS (out), 36 BIAS, 37 VCC11 (power), 38 CLKOUT1 (out), 39 CLKOUT1 (out), 40 VCC12 (power), 41 CLKOUT2 (out), 42 CLKOUT2 (out), 43 VCC13 (power), 44 CLKOUT3 (out), 45 CLKOUT3 (out), 46 VCC14 (power), 47 CLKOUT4 (out), 48 CLKOUT4 (out), 49 DAP

## LMS75LBC176M
designator U?
Differential Bus Transceivers; PartNumber: LMS75LBC176M; Manufacturer: National Semiconductor; CompType: Interface IC; PackageTopMarking: NSZXTT*75LBC*176; Published: 4-Dec-2008; DatasheetVersion: Apr-2003; PackageVersion: revL, Sep-2006; PackageReference: M08A; Publisher: Altium Limited; PackageDescription: SOIC Narrow, 4.9 x 3.9 x 1.45mm, 8 Lead, 1.27mm Pitch; RoHS: Y; PinCount: 8; Code_JEDEC: MS-012-AA; Code_IPC: SOIC127P600-8; ComponentLink1Description: LMS75LBC176 Datasheet; ComponentLink1URL: http://www.national.com/ds/LM/LMS75LBC176.pdf; ComponentLink2Description: LMS75LBC176 Web Page; ComponentLink2URL: http://www.national.com/pf/LM/LMS75LBC176.html; ComponentLink3Description: M08A Package Page; ComponentLink3URL: http://www.national.com/packaging/folders/m08a.html
footprint M08A_N (SOIC, 8-Leads, Body 4.9x3.9mm, Pitch 1.27mm, IPC Medium Density)
footprint M08A_L (SOIC, 8-Leads, Body 4.9x3.9mm, Pitch 1.27mm, IPC High Density)
footprint M08A_M (SOIC, 8-Leads, Body 4.9x3.9mm, Pitch 1.27mm, IPC Low Density)
pins: 1 RO (out), 2 ~{RE} (in), 3 DE (in), 4 DI (in), 5 GND (power), 6 A (in), 7 B (in), 8 VCC (power)

## LMS202ECM
designator U?
15KV ESD Rated, 5V Single Supply TIA/EIA-232 Dual Transceivers; PartNumber: LMS202ECM; Manufacturer: National Semiconductor; CompType: Interface IC; PackageTopMarking: NSUZXYTT*LMS202ECM; Published: 4-Dec-2008; DatasheetVersion: Mar-2003; PackageVersion: revJ, Aug-1995; PackageReference: M16A; Publisher: Altium Limited; PackageDescription: Molded Package, S.O., .150in Wide, 16 Lead; RoHS: Y; PinCount: 16; Code_JEDEC: MS-012-AC; Code_IPC: SOIC127P600-16; ComponentLink1Description: LMS202E Datasheet; ComponentLink1URL: http://www.national.com/ds/LM/LMS202E.pdf; ComponentLink2Description: LMS202E Web Page; ComponentLink2URL: http://www.national.com/pf/LM/LMS202E.html; ComponentLink3Description: M16A Package Page; ComponentLink3URL: http://www.national.com/packaging/folders/m16a.html
footprint M16A_N (SOIC, 16-Leads, Body 9.9x3.9mm, Pitch 1.27mm, IPC Medium Density)
footprint M16A_L (SOIC, 16-Leads, Body 9.9x3.9mm, Pitch 1.27mm, IPC High Density)
footprint M16A_M (SOIC, 16-Leads, Body 9.9x3.9mm, Pitch 1.27mm, IPC Low Density)
pins: 1 C1+ (in), 2 V+ (power), 3 C1- (in), 4 C2+ (in), 5 C2- (in), 6 V- (power), 7 T1OUT (out), 8 R1IN (in), 9 R1OUT (out), 10 TIN1 (in), 11 TIN2 (in), 12 R2OUT (out), 13 R2IN (in), 14 T2OUT (out), 15 GND (power), 16 VS (power)

## LMS202EIM
designator U?
15KV ESD Rated, 5V Single Supply TIA/EIA-232 Dual Transceivers; PartNumber: LMS202EIM; Manufacturer: National Semiconductor; CompType: Interface IC; PackageTopMarking: NSUZXYTT*LMS202EIM; Published: 4-Dec-2008; DatasheetVersion: Mar-2003; PackageVersion: revJ, Aug-1995; PackageReference: M16A; Publisher: Altium Limited; PackageDescription: Molded Package, S.O., .150in Wide, 16 Lead; RoHS: Y; PinCount: 16; Code_JEDEC: MS-012-AC; Code_IPC: SOIC127P600-16; ComponentLink1Description: LMS202E Datasheet; ComponentLink1URL: http://www.national.com/ds/LM/LMS202E.pdf; ComponentLink2Description: LMS202E Web Page; ComponentLink2URL: http://www.national.com/pf/LM/LMS202E.html; ComponentLink3Description: M16A Package Page; ComponentLink3URL: http://www.national.com/packaging/folders/m16a.html
footprint M16A_N (SOIC, 16-Leads, Body 9.9x3.9mm, Pitch 1.27mm, IPC Medium Density)
footprint M16A_L (SOIC, 16-Leads, Body 9.9x3.9mm, Pitch 1.27mm, IPC High Density)
footprint M16A_M (SOIC, 16-Leads, Body 9.9x3.9mm, Pitch 1.27mm, IPC Low Density)
pins: 1 C1+ (in), 2 V+ (power), 3 C1- (in), 4 C2+ (in), 5 C2- (in), 6 V- (power), 7 T1OUT (out), 8 R1IN (in), 9 R1OUT (out), 10 TIN1 (in), 11 TIN2 (in), 12 R2OUT (out), 13 R2IN (in), 14 T2OUT (out), 15 GND (power), 16 VS (power)

## LMS202EIMW
designator U?
15KV ESD Rated, 5V Single Supply TIA/EIA-232 Dual Transceivers; PartNumber: LMS202EIMW; Manufacturer: National Semiconductor; CompType: Interface IC; PackageTopMarking: NSUZXYTT*LMS202*EIMW; Published: 4-Dec-2008; DatasheetVersion: Mar-2003; PackageVersion: revF, Apr-1990; PackageReference: M16B; Publisher: Altium Limited; PackageDescription: Molded Package, S.O., .300in Wide, 16 Lead; RoHS: Y; PinCount: 16; Code_JEDEC: MS-013-AA; Code_IPC: SOIC127P1030-16; ComponentLink1Description: LMS202E Datasheet; ComponentLink1URL: http://www.national.com/ds/LM/LMS202E.pdf; ComponentLink2Description: LMS202E Web Page; ComponentLink2URL: http://www.national.com/pf/LM/LMS202E.html; ComponentLink3Description: M16B Package Page; ComponentLink3URL: http://www.national.com/packaging/folders/m16b.html
footprint M16B_N (SOIC, 16-Leads, Body 10.3x7.5mm, Pitch 1.27mm, IPC Medium Density)
footprint M16B_L (SOIC, 16-Leads, Body 10.3x7.5mm, Pitch 1.27mm, IPC High Density)
footprint M16B_M (SOIC, 16-Leads, Body 10.3x7.5mm, Pitch 1.27mm, IPC Low Density)
pins: 1 C1+ (in), 2 V+ (power), 3 C1- (in), 4 C2+ (in), 5 C2- (in), 6 V- (power), 7 T1OUT (out), 8 R1IN (in), 9 R1OUT (out), 10 TIN1 (in), 11 TIN2 (in), 12 R2OUT (out), 13 R2IN (in), 14 T2OUT (out), 15 GND (power), 16 VS (power)

## LMS485CM
designator U?
5V Low Power RS-485 / RS-422 Differential Bus Transceiver; PartNumber: LMS485CM; Manufacturer: National Semiconductor; CompType: Interface IC; PackageTopMarking: NSZXTT*LMS4*85CM; Published: 4-Dec-2008; DatasheetVersion: Apr-2003; PackageVersion: revL, Sep-2006; PackageReference: M08A; Publisher: Altium Limited; PackageDescription: SOIC Narrow, 4.9 x 3.9 x 1.45mm, 8 Lead, 1.27mm Pitch; RoHS: Y; PinCount: 8; Code_JEDEC: MS-012-AA; Code_IPC: SOIC127P600-8; ComponentLink1Description: LMS485 Datasheet; ComponentLink1URL: http://www.national.com/ds/LM/LMS485.pdf; ComponentLink2Description: LMS485 Web Page; ComponentLink2URL: http://www.national.com/pf/LM/LMS485.html; ComponentLink3Description: M08A Package Page; ComponentLink3URL: http://www.national.com/packaging/folders/m08a.html
footprint M08A_N (SOIC, 8-Leads, Body 4.9x3.9mm, Pitch 1.27mm, IPC Medium Density)
footprint M08A_L (SOIC, 8-Leads, Body 4.9x3.9mm, Pitch 1.27mm, IPC High Density)
footprint M08A_M (SOIC, 8-Leads, Body 4.9x3.9mm, Pitch 1.27mm, IPC Low Density)
pins: 1 RO (out), 2 ~{RE} (in), 3 DE (in), 4 DI (in), 5 GND (power), 6 A (in), 7 B (in), 8 VCC (power)

## LMS485CNA
designator U?
5V Low Power RS-485 / RS-422 Differential Bus Transceiver; PartNumber: LMS485CNA; Manufacturer: National Semiconductor; CompType: Interface IC; PackageTopMarking: NSUZXYTT*LMS485CNA; Published: 4-Dec-2008; DatasheetVersion: Apr-2003; PackageVersion: revG, May-2006; PackageReference: N08E; Publisher: Altium Limited; PackageDescription: MDIP, .365 x .250 x .130in, 8 Lead, .100in Pitch; RoHS: Y; PinCount: 8; Code_JEDEC: MS-001-BA; ComponentLink1Description: LMS485 Datasheet; ComponentLink1URL: http://www.national.com/ds/LM/LMS485.pdf; ComponentLink2Description: LMS485 Web Page; ComponentLink2URL: http://www.national.com/pf/LM/LMS485.html; ComponentLink3Description: N08E Package Page; ComponentLink3URL: http://www.national.com/packaging/folders/n08e.html
footprint N08E (DIP, 8-Leads, Row Spacing 7.62mm, Pitch 2.54mm, Body 9.91x6.35mm)
pins: 1 RO (out), 2 ~{RE} (in), 3 DE (in), 4 DI (in), 5 GND (power), 6 A (in), 7 B (in), 8 VCC (power)

## LMS485EIM
designator U?
Low Power RS-485 / RS-422 Differential Bus Transceiver-485 / RS-422 Differential Bus Transceiver; PartNumber: LMS485EIM; Manufacturer: National Semiconductor; CompType: Interface IC; PackageTopMarking: NSZXTT*LMS48*5EIM; Published: 4-Dec-2008; DatasheetVersion: Apr-2003; PackageVersion: revL, Sep-2006; PackageReference: M08A; Publisher: Altium Limited; PackageDescription: SOIC Narrow, 4.9 x 3.9 x 1.45mm, 8 Lead, 1.27mm Pitch; RoHS: Y; PinCount: 8; Code_JEDEC: MS-012-AA; Code_IPC: SOIC127P600-8; ComponentLink1Description: LMS485E Datasheet; ComponentLink1URL: http://www.national.com/ds/LM/LMS485.pdf; ComponentLink2Description: LMS485E Web Page; ComponentLink2URL: http://www.national.com/pf/LM/LMS485E.html; ComponentLink3Description: M08A Package Page; ComponentLink3URL: http://www.national.com/packaging/folders/m08a.html
footprint M08A_N (SOIC, 8-Leads, Body 4.9x3.9mm, Pitch 1.27mm, IPC Medium Density)
footprint M08A_L (SOIC, 8-Leads, Body 4.9x3.9mm, Pitch 1.27mm, IPC High Density)
footprint M08A_M (SOIC, 8-Leads, Body 4.9x3.9mm, Pitch 1.27mm, IPC Low Density)
pins: 1 RO (out), 2 ~{RE} (in), 3 DE (in), 4 DI (in), 5 GND (power), 6 A (in), 7 B (in), 8 VCC (power)

## LMS485IM
designator U?
5V Low Power RS-485 / RS-422 Differential Bus Transceiver; PartNumber: LMS485IM; Manufacturer: National Semiconductor; CompType: Interface IC; PackageTopMarking: NSZXTT*LMS4*85IM; Published: 4-Dec-2008; DatasheetVersion: Apr-2003; PackageVersion: revL, Sep-2006; PackageReference: M08A; Publisher: Altium Limited; PackageDescription: SOIC Narrow, 4.9 x 3.9 x 1.45mm, 8 Lead, 1.27mm Pitch; RoHS: Y; PinCount: 8; Code_JEDEC: MS-012-AA; Code_IPC: SOIC127P600-8; ComponentLink1Description: LMS485 Datasheet; ComponentLink1URL: http://www.national.com/ds/LM/LMS485.pdf; ComponentLink2Description: LMS485 Web Page; ComponentLink2URL: http://www.national.com/pf/LM/LMS485.html; ComponentLink3Description: M08A Package Page; ComponentLink3URL: http://www.national.com/packaging/folders/m08a.html
footprint M08A_N (SOIC, 8-Leads, Body 4.9x3.9mm, Pitch 1.27mm, IPC Medium Density)
footprint M08A_L (SOIC, 8-Leads, Body 4.9x3.9mm, Pitch 1.27mm, IPC High Density)
footprint M08A_M (SOIC, 8-Leads, Body 4.9x3.9mm, Pitch 1.27mm, IPC Low Density)
pins: 1 RO (out), 2 ~{RE} (in), 3 DE (in), 4 DI (in), 5 GND (power), 6 A (in), 7 B (in), 8 VCC (power)

## LMS485INA
designator U?
5V Low Power RS-485 / RS-422 Differential Bus Transceiver; PartNumber: LMS485INA; Manufacturer: National Semiconductor; CompType: Interface IC; PackageTopMarking: NSUZXYTT*LMS485INA; Published: 4-Dec-2008; DatasheetVersion: Apr-2003; PackageVersion: revG, May-2006; PackageReference: N08E; Publisher: Altium Limited; PackageDescription: MDIP, .365 x .250 x .130in, 8 Lead, .100in Pitch; RoHS: Y; PinCount: 8; Code_JEDEC: MS-001-BA; ComponentLink1Description: LMS485 Datasheet; ComponentLink1URL: http://www.national.com/ds/LM/LMS485.pdf; ComponentLink2Description: LMS485 Web Page; ComponentLink2URL: http://www.national.com/pf/LM/LMS485.html; ComponentLink3Description: N08E Package Page; ComponentLink3URL: http://www.national.com/packaging/folders/n08e.html
footprint N08E (DIP, 8-Leads, Row Spacing 7.62mm, Pitch 2.54mm, Body 9.91x6.35mm)
pins: 1 RO (out), 2 ~{RE} (in), 3 DE (in), 4 DI (in), 5 GND (power), 6 A (in), 7 B (in), 8 VCC (power)

## LMS1485IM
designator U?
5V Low Power RS-485 Differential Bus Transceiver; PartNumber: LMS1485IM; Manufacturer: National Semiconductor; CompType: Interface IC; PackageTopMarking: NSZXTT*LMS14*85IM; Published: 4-Dec-2008; DatasheetVersion: Jul-2003; PackageVersion: revL, Sep-2006; PackageReference: M08A; Publisher: Altium Limited; PackageDescription: SOIC Narrow, 4.9 x 3.9 x 1.45mm, 8 Lead, 1.27mm Pitch; RoHS: Y; PinCount: 8; Code_JEDEC: MS-012-AA; Code_IPC: SOIC127P600-8; ComponentLink1Description: LMS1485 Datasheet; ComponentLink1URL: http://www.national.com/ds/LM/LMS1485.pdf; ComponentLink2Description: LMS1485 Web Page; ComponentLink2URL: http://www.national.com/pf/LM/LMS1485.html; ComponentLink3Description: M08A Package Page; ComponentLink3URL: http://www.national.com/packaging/folders/m08a.html
footprint M08A_N (SOIC, 8-Leads, Body 4.9x3.9mm, Pitch 1.27mm, IPC Medium Density)
footprint M08A_L (SOIC, 8-Leads, Body 4.9x3.9mm, Pitch 1.27mm, IPC High Density)
footprint M08A_M (SOIC, 8-Leads, Body 4.9x3.9mm, Pitch 1.27mm, IPC Low Density)
pins: 1 RO (out), 2 ~{RE} (in), 3 DE (in), 4 DI (in), 5 GND (power), 6 A (in), 7 B (in), 8 VCC (power)

## LMS1487CNA
designator U?
5V Low Power RS-485 / RS-422 Differential Bus Transceiver; PartNumber: LMS1487CNA; Manufacturer: National Semiconductor; CompType: Interface IC; PackageTopMarking: NSUZXYTT*LMS1487*CNA; Published: 4-Dec-2008; DatasheetVersion: Apr-2003; PackageVersion: revG, May-2006; PackageReference: N08E; Publisher: Altium Limited; PackageDescription: MDIP, .365 x .250 x .130in, 8 Lead, .100in Pitch; RoHS: Y; PinCount: 8; Code_JEDEC: MS-001-BA; ComponentLink1Description: LMS1487 Datasheet; ComponentLink1URL: http://www.national.com/ds/LM/LMS1487.pdf; ComponentLink2Description: LMS1487 Web Page; ComponentLink2URL: http://www.national.com/pf/LM/LMS1487.html; ComponentLink3Description: N08E Package Page; ComponentLink3URL: http://www.national.com/packaging/folders/n08e.html
footprint N08E (DIP, 8-Leads, Row Spacing 7.62mm, Pitch 2.54mm, Body 9.91x6.35mm)
pins: 1 RO (out), 2 ~{RE} (in), 3 DE (in), 4 DI (in), 5 GND (power), 6 A (in), 7 B (in), 8 VCC (power)

## LMS1487ECM
designator U?
Low Power RS-485 / RS-422 Differential Bus Transceiver-485 / RS-422 Differential Bus Transceiver; PartNumber: LMS1487ECM; Manufacturer: National Semiconductor; CompType: Interface IC; PackageTopMarking: NSZXTT*LMS14*87ECM; Published: 4-Dec-2008; DatasheetVersion: Apr-2003; PackageVersion: revL, Sep-2006; PackageReference: M08A; Publisher: Altium Limited; PackageDescription: SOIC Narrow, 4.9 x 3.9 x 1.45mm, 8 Lead, 1.27mm Pitch; RoHS: Y; PinCount: 8; Code_JEDEC: MS-012-AA; Code_IPC: SOIC127P600-8; ComponentLink1Description: LMS1487E Datasheet; ComponentLink1URL: http://www.national.com/ds/LM/LMS1487.pdf; ComponentLink2Description: LMS1487E Web Page; ComponentLink2URL: http://www.national.com/pf/LM/LMS1487E.html; ComponentLink3Description: M08A Package Page; ComponentLink3URL: http://www.national.com/packaging/folders/m08a.html
footprint M08A_N (SOIC, 8-Leads, Body 4.9x3.9mm, Pitch 1.27mm, IPC Medium Density)
footprint M08A_L (SOIC, 8-Leads, Body 4.9x3.9mm, Pitch 1.27mm, IPC High Density)
footprint M08A_M (SOIC, 8-Leads, Body 4.9x3.9mm, Pitch 1.27mm, IPC Low Density)
pins: 1 RO (out), 2 ~{RE} (in), 3 DE (in), 4 DI (in), 5 GND (power), 6 A (in), 7 B (in), 8 VCC (power)

## LMS1487ECNA
designator U?
Low Power RS-485 / RS-422 Differential Bus Transceiver-485 / RS-422 Differential Bus Transceiver; PartNumber: LMS1487ECNA; Manufacturer: National Semiconductor; CompType: Interface IC; PackageTopMarking: NSUZXYTT*LMS1487*ECNA; Published: 4-Dec-2008; DatasheetVersion: Apr-2003; PackageVersion: revG, May-2006; PackageReference: N08E; Publisher: Altium Limited; PackageDescription: MDIP, .365 x .250 x .130in, 8 Lead, .100in Pitch; RoHS: Y; PinCount: 8; Code_JEDEC: MS-001-BA; ComponentLink1Description: LMS1487E Datasheet; ComponentLink1URL: http://www.national.com/ds/LM/LMS1487.pdf; ComponentLink2Description: LMS1487E Web Page; ComponentLink2URL: http://www.national.com/pf/LM/LMS1487E.html; ComponentLink3Description: N08E Package Page; ComponentLink3URL: http://www.national.com/packaging/folders/n08e.html
footprint N08E (DIP, 8-Leads, Row Spacing 7.62mm, Pitch 2.54mm, Body 9.91x6.35mm)
pins: 1 RO (out), 2 ~{RE} (in), 3 DE (in), 4 DI (in), 5 GND (power), 6 A (in), 7 B (in), 8 VCC (power)

## LMS1487EIM
designator U?
Low Power RS-485 / RS-422 Differential Bus Transceiver-485 / RS-422 Differential Bus Transceiver; PartNumber: LMS1487EIM; Manufacturer: National Semiconductor; CompType: Interface IC; PackageTopMarking: NSZXTT*LMS14*87EIM; Published: 4-Dec-2008; DatasheetVersion: Apr-2003; PackageVersion: revL, Sep-2006; PackageReference: M08A; Publisher: Altium Limited; PackageDescription: SOIC Narrow, 4.9 x 3.9 x 1.45mm, 8 Lead, 1.27mm Pitch; RoHS: Y; PinCount: 8; Code_JEDEC: MS-012-AA; Code_IPC: SOIC127P600-8; ComponentLink1Description: LMS1487E Datasheet; ComponentLink1URL: http://www.national.com/ds/LM/LMS1487.pdf; ComponentLink2Description: LMS1487E Web Page; ComponentLink2URL: http://www.national.com/pf/LM/LMS1487E.html; ComponentLink3Description: M08A Package Page; ComponentLink3URL: http://www.national.com/packaging/folders/m08a.html
footprint M08A_N (SOIC, 8-Leads, Body 4.9x3.9mm, Pitch 1.27mm, IPC Medium Density)
footprint M08A_L (SOIC, 8-Leads, Body 4.9x3.9mm, Pitch 1.27mm, IPC High Density)
footprint M08A_M (SOIC, 8-Leads, Body 4.9x3.9mm, Pitch 1.27mm, IPC Low Density)
pins: 1 RO (out), 2 ~{RE} (in), 3 DE (in), 4 DI (in), 5 GND (power), 6 A (in), 7 B (in), 8 VCC (power)

## LMS1487IM
designator U?
5V Low Power RS-485 / RS-422 Differential Bus Transceiver; PartNumber: LMS1487IM; Manufacturer: National Semiconductor; CompType: Interface IC; PackageTopMarking: NSZXTT*LMS14*87IM; Published: 4-Dec-2008; DatasheetVersion: Apr-2003; PackageVersion: revL, Sep-2006; PackageReference: M08A; Publisher: Altium Limited; PackageDescription: SOIC Narrow, 4.9 x 3.9 x 1.45mm, 8 Lead, 1.27mm Pitch; RoHS: O; PinCount: 8; Code_JEDEC: MS-012-AA; Code_IPC: SOIC127P600-8; ComponentLink1Description: LMS1487 Datasheet; ComponentLink1URL: http://www.national.com/ds/LM/LMS1487.pdf; ComponentLink2Description: LMS1487 Web Page; ComponentLink2URL: http://www.national.com/pf/LM/LMS1487.html; ComponentLink3Description: M08A Package Page; ComponentLink3URL: http://www.national.com/packaging/folders/m08a.html
footprint M08A_N (SOIC, 8-Leads, Body 4.9x3.9mm, Pitch 1.27mm, IPC Medium Density)
footprint M08A_L (SOIC, 8-Leads, Body 4.9x3.9mm, Pitch 1.27mm, IPC High Density)
footprint M08A_M (SOIC, 8-Leads, Body 4.9x3.9mm, Pitch 1.27mm, IPC Low Density)
pins: 1 RO (out), 2 ~{RE} (in), 3 DE (in), 4 DI (in), 5 GND (power), 6 A (in), 7 B (in), 8 VCC (power)

## LMX1600TM
designator U?
2.0 GHz/500 MHz PLLatinum Low Cost Dual Frequency Synthesizer; PartNumber: LMX1600TM; Manufacturer: National Semiconductor; CompType: Interface IC; PackageTopMarking: NSUZXYTT*LMX1600*TMDD; Published: 4-Dec-2008; DatasheetVersion: Jun-2005; PackageVersion: revD, Jun-2003; PackageReference: MTC16; Publisher: Altium Limited; PackageDescription: Molded TSSOP, Jedec, 5 x 4.4 x 0.9mm Body, 16 Lead, 0.65mm Pitch; RoHS: Y; PinCount: 16; DigiKeyPartNumber: LMX1600TM-ND; Code_JEDEC: MO-153-AB; ComponentLink1Description: LMX1600 Datasheet; ComponentLink1URL: http://www.national.com/ds/LM/LMX1600.pdf; ComponentLink2Description: LMX1600 Web Page; ComponentLink2URL: http://www.national.com/pf/LM/LMX1600.html; ComponentLink3Description: MTC16 Package Page; ComponentLink3URL: http://www.national.com/packaging/folders/mtc16.html
footprint MTC16_N (TSOP, 16-Leads, Body 5x4.4mm, Pitch 0.65mm, IPC Medium Density)
footprint MTC16_L (TSOP, 16-Leads, Body 5x4.4mm, Pitch 0.65mm, IPC High Density)
footprint MTC16_M (TSOP, 16-Leads, Body 5x4.4mm, Pitch 0.65mm, IPC Low Density)
pins: 1 FOLD (out), 2 OSCIN (in), 3 OSCOUT (out), 4 GND (power), 5 FINAUX (in), 6 VCCAUX (power), 7 CPOAUX (out), 8 ENAUX (in), 9 ENMAIN (in), 10 CPOMAIN (out), 11 VCCMAIN (power), 12 FINMAIN (in), 13 GND (power), 14 LE (in), 15 DATA (in), 16 CLOCK (in)